# Altium schematic symbol library 8脚框.SchLib: 1 symbol
Pins are listed as number, name and electrical type; pins without a type are passive.

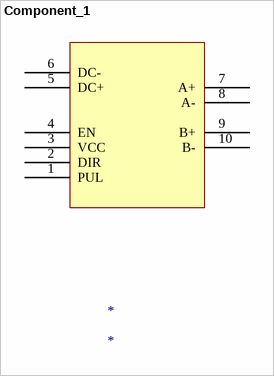
[diagram p0: symbol Component_1]

## Component_1
designator *
pins: 1 PUL, 2 DIR, 3 VCC, 4 EN, 5 DC+, 6 DC-, 7 A+, 8 A-, 9 B+, 10 B-